# EAGLE library part FM31256-G (library doz)
FRAM memory and processor supervisor
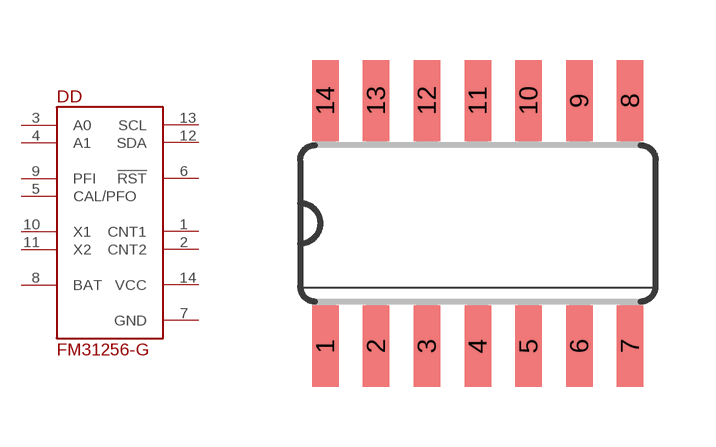
[diagram p1: symbol with the pads of SO14; footprint SO14]

Designator prefix DD

## FM31256-G  [SO14]
1  CNT1
2  CNT2
3  A0  in
4  A1  in
5  CAL/PFO
6  !RST
7  GND
8  BAT  pwr
9  PFI  in
10  X1  in
11  X2  in
12  SDA
13  SCL  in
14  VCC

## Footprint SO14 (pad centres in mm)
SO14
smd 0.66 x 2.032: 1 -3.81,-3.073; 2 -2.54,-3.073; 3 -1.27,-3.073; 4 0,-3.073; 5 1.27,-3.073; 6 2.54,-3.073; 7 3.81,-3.073; 8 3.81,3.073; 9 2.54,3.073; 10 1.27,3.073; 11 0,3.073; 12 -1.27,3.073; 13 -2.54,3.073; 14 -3.81,3.073